# Altium schematic symbol library LM35DZ_LFT4.SchLib: 1 symbol
Pins are listed as number, name and electrical type; pins without a type are passive.

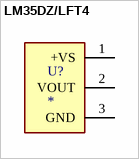
[diagram p0: symbol LM35DZ/LFT4]

## LM35DZ/LFT4
designator U?
1C high voltage analog temperature sensor, 10 mV/C; MF: Texas Instruments; MP: LM35DZ/LFT4; SnapEDA_Link: https://www.snapeda.com/parts/LM35DZ/LFT4/Texas+Instruments/view-part/?ref=snap; Package: TO-92-3 Texas Instruments; Value: *; Check_prices: https://www.snapeda.com/parts/LM35DZ/LFT4/Texas+Instruments/view-part/?ref=eda
footprint IC_LM35DZ/LFT4
pins: 1 +VS (power), 2 VOUT, 3 GND (power)